# EAGLE library part ADP5062 (library OMAT_IC)
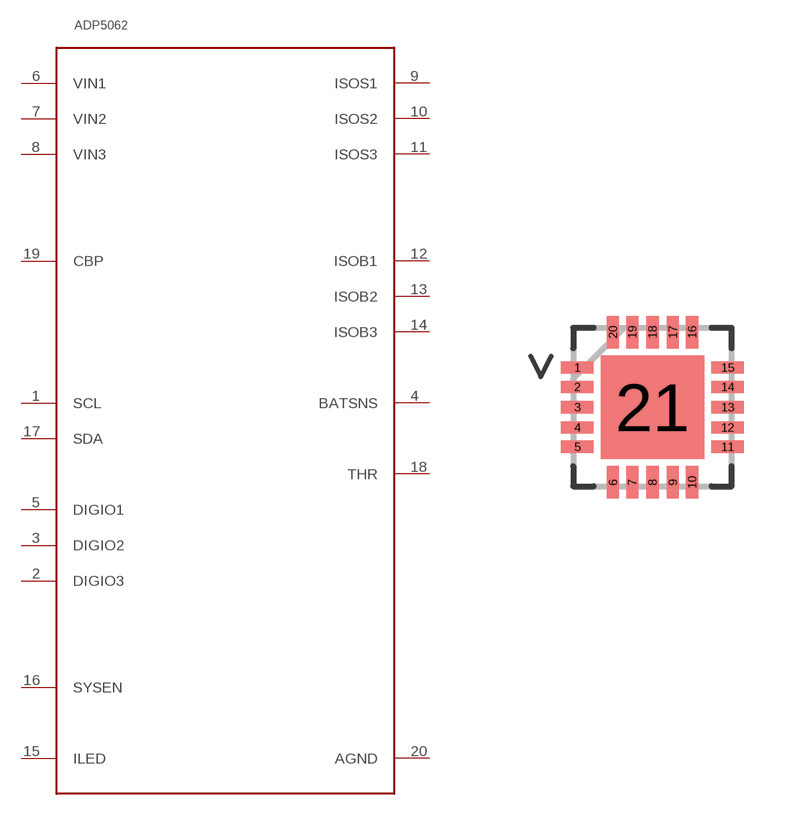
[diagram p0: symbol with the pads of QFN50P400X400X80-21N; footprint QFN50P400X400X80-21N]

Designator prefix -

## ADP5062  [QFN50P400X400X80-21N]
1  SCL
2  DIGIO3
3  DIGIO2
4  BATSNS
5  DIGIO1
6  VIN1
7  VIN2
8  VIN3
9  ISOS1
10  ISOS2
11  ISOS3
12  ISOB1
13  ISOB2
14  ISOB3
15  ILED
16  SYSEN
17  SDA
18  THR
19  CBP
20  AGND

## Footprint QFN50P400X400X80-21N (pad centres in mm)
smd 0.813 x 0.305: 1 -1.88,0.991; 2 -1.88,0.508; 3 -1.88,0; 4 -1.88,-0.508; 5 -1.88,-0.991; 11 1.88,-0.991; 12 1.88,-0.508; 13 1.88,0; 14 1.88,0.508; 15 1.88,0.991
smd 0.305 x 0.813: 6 -0.991,-1.88; 7 -0.508,-1.88; 8 0,-1.88; 9 0.508,-1.88; 10 0.991,-1.88; 16 0.991,1.88; 17 0.508,1.88; 18 0,1.88; 19 -0.508,1.88; 20 -0.991,1.88
smd 2.591 x 2.591: 21 0,0